# EAGLE library part CM1624 (library r2p_ic)
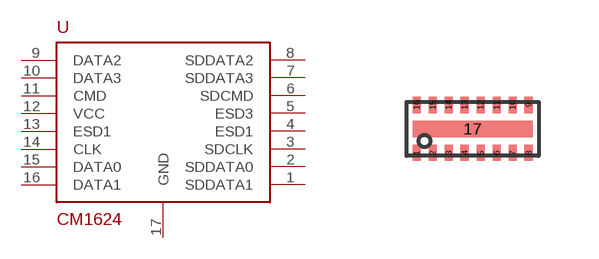
[diagram p4: symbol with the pads of UDFN16; footprint UDFN16]

Designator prefix U

## CM1624  [UDFN16]
1  SDDATA1
2  SDDATA0
3  SDCLK
4  ESD1
5  ESD3
6  SDCMD
7  SDDATA3
8  SDDATA2
9  DATA2
10  DATA3
11  CMD
12  VCC
13  ESD1
14  CLK
15  DATA0
16  DATA1
17  GND

## Footprint UDFN16 (pad centres in mm)
smd 0.2 x 0.4: 1 -1.4,-0.6; 2 -1,-0.6; 3 -0.6,-0.6; 4 -0.2,-0.6; 5 0.2,-0.6; 6 0.6,-0.6; 7 1,-0.6; 8 1.4,-0.6; 9 1.4,0.6; 10 1,0.6; 11 0.6,0.6; 12 0.2,0.6; 13 -0.2,0.6; 14 -0.6,0.6; 15 -1,0.6; 16 -1.4,0.6
smd 3 x 0.4: 17 0,0